# Altium footprint library LDO_Texas_Instruments_TLV70218QDSERQ1_300mA.PcbLib: 1 footprints
Each footprint in its own frame and in the unit in brackets; x right, y up, seen from the top. Pads: shape width x height; smd on the part's side, far side on the other; paste and mask are expansions set on the pad; w line width, h text height; cw(c..) or ccw(c..) is an arc to the next point about the centre after c.
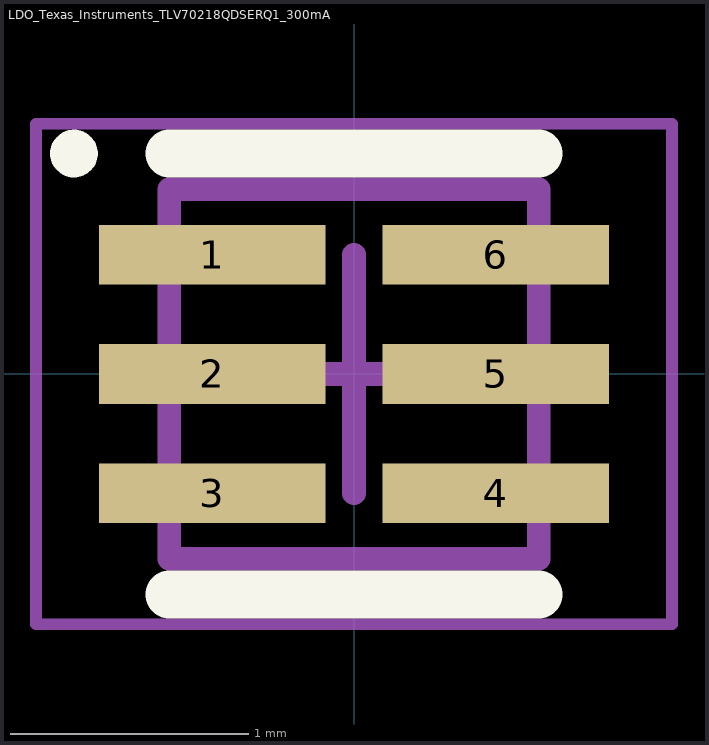
[diagram p0: the footprint, top view; thin cyan lines are the x and y axes]

## LDO_Texas_Instruments_TLV70218QDSERQ1_300mA [mm]
height 0.8
pads (6):
  rect 0.95x0.25 smd mask+0.05: 1(-0.595,0.5) 2(-0.595,0) 3(-0.595,-0.5) 4(0.595,-0.5) 5(0.595,0) 6(0.595,0.5)
Top Overlay:
  circle w0.1: c-1.175,0.925 r0.05
  lines w0.2: -0.775,-0.925 0.775,-0.925 ; -0.775,0.925 0.775,0.925
Mechanical 13:
  lines w0.1: -0.775,-0.775 0.775,-0.775 0.775,0.775 -0.775,0.775 -0.775,-0.775
Mechanical 15:
  lines w0.05: -1.335,-1.05 1.335,-1.05 1.335,1.05 -1.335,1.05 -1.335,-1.05
  lines w0.1: -0.5,0 0.5,0 ; 0,-0.5 0,0.5
3D body "SON50P150X80-6N.step": height 0.8, standoff 0, extent -0.825,-0.775 0.825,0.775